# Altium schematic symbol library Resistors Ceramic SMD 1608.SchLib: 35 symbols
Pins are listed as number, name and electrical type; pins without a type are passive.

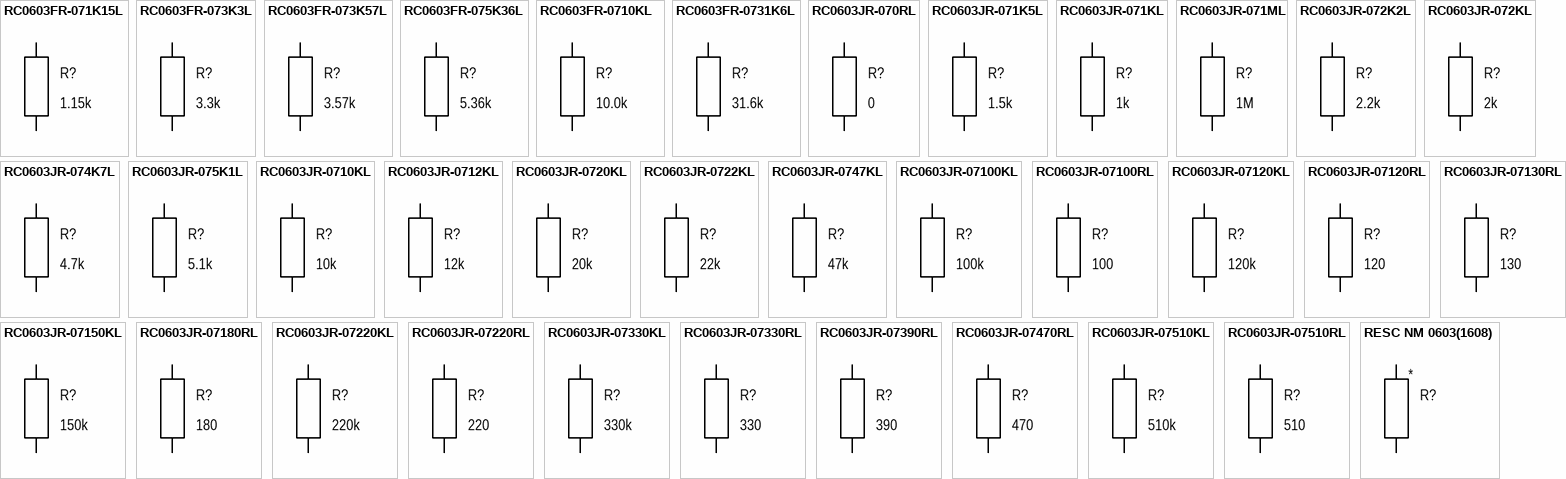
[diagram p0: symbols RC0603FR-071K15L to RESC NM 0603(1608)]

## RC0603FR-071K15L
designator R?, comment 1.15k
RESC 1.15k 0603(1608) 1%; Manufacturer: Yageo; Part name: RC0603FR-071K15L; Group: Discrete; Temperature coefficient: ±100ppm/°C; Power: 0.1W; Component: Resiscot Ceramic SMD; Tolerance: ±1%; Type: Thin film; Package: 0603 (1608); Resistance: 1.15k; Dimension: 1.60mm x 0.80mm; Height: 0.55mm; Operating temperature: -55°C +155°C; Mounting type: Surface mount
footprint RESC1608N (Chip Resistor, Body 1.6x0.8mm, IPC High Density)
footprint RESC1608M (Chip Resistor, Body 1.6x0.8mm, IPC High Density)
footprint RESC1608L (Chip Resistor, Body 1.6x0.8mm, IPC High Density)
pins: 1, 2

## RC0603FR-073K3L
designator R?, comment 3.3k
RESC 3.30k 0603(1608) 1%; Manufacturer: Yageo; Part name: RC0603FR-073K3L; Group: Discrete; Temperature coefficient: ±100ppm/°C; Power: 0.1W; Component: Resiscot Ceramic SMD; Tolerance: ±1%; Type: Thin film; Package: 0603 (1608); Resistance: 3.3k; Dimension: 1.60mm x 0.80mm; Height: 0.55mm; Operating temperature: -55°C +155°C; Mounting type: Surface mount
footprint RESC1608N (Chip Resistor, Body 1.6x0.8mm, IPC High Density)
footprint RESC1608M (Chip Resistor, Body 1.6x0.8mm, IPC High Density)
footprint RESC1608L (Chip Resistor, Body 1.6x0.8mm, IPC High Density)
pins: 1, 2

## RC0603FR-073K57L
designator R?, comment 3.57k
RESC 3.57k 0603(1608) 1%; Manufacturer: Yageo; Part name: RC0603FR-073K57L; Group: Discrete; Temperature coefficient: ±100ppm/°C; Power: 0.1W; Component: Resiscot Ceramic SMD; Tolerance: ±1%; Type: Thin film; Package: 0603 (1608); Resistance: 3.57k; Dimension: 1.60mm x 0.80mm; Height: 0.55mm; Operating temperature: -55°C +155°C; Mounting type: Surface mount
footprint RESC1608N (Chip Resistor, Body 1.6x0.8mm, IPC High Density)
footprint RESC1608M (Chip Resistor, Body 1.6x0.8mm, IPC High Density)
footprint RESC1608L (Chip Resistor, Body 1.6x0.8mm, IPC High Density)
pins: 1, 2

## RC0603FR-075K36L
designator R?, comment 5.36k
RESC 5.36k 0603(1608) 1%; Manufacturer: Yageo; Part name: RC0603FR-075K36L; Group: Discrete; Temperature coefficient: ±100ppm/°C; Power: 0.1W; Component: Resiscot Ceramic SMD; Tolerance: ±1%; Type: Thin film; Package: 0603 (1608); Resistance: 5.36k; Dimension: 1.60mm x 0.80mm; Height: 0.55mm; Operating temperature: -55°C +155°C; Mounting type: Surface mount
footprint RESC1608N (Chip Resistor, Body 1.6x0.8mm, IPC High Density)
footprint RESC1608M (Chip Resistor, Body 1.6x0.8mm, IPC High Density)
footprint RESC1608L (Chip Resistor, Body 1.6x0.8mm, IPC High Density)
pins: 1, 2

## RC0603FR-0710KL
designator R?, comment 10.0k
RESC 10.0k 0603(1608) 1%; Manufacturer: Yageo; Part name: RC0603FR-0710KL; Group: Discrete; Temperature coefficient: ±100ppm/°C; Power: 0.1W; Component: Resiscot Ceramic SMD; Tolerance: ±1%; Type: Thin film; Package: 0603 (1608); Resistance: 10.0k; Dimension: 1.60mm x 0.80mm; Height: 0.55mm; Operating temperature: -55°C +155°C; Mounting type: Surface mount
footprint RESC1608N (Chip Resistor, Body 1.6x0.8mm, IPC High Density)
footprint RESC1608M (Chip Resistor, Body 1.6x0.8mm, IPC High Density)
footprint RESC1608L (Chip Resistor, Body 1.6x0.8mm, IPC High Density)
pins: 1, 2

## RC0603FR-0731K6L
designator R?, comment 31.6k
RESC 31.6k 0603(1608) 1%; Manufacturer: Yageo; Part name: RC0603FR-0731K6L; Group: Discrete; Temperature coefficient: ±100ppm/°C; Power: 0.1W; Component: Resiscot Ceramic SMD; Tolerance: ±1%; Type: Thin film; Package: 0603 (1608); Resistance: 31.6k; Dimension: 1.60mm x 0.80mm; Height: 0.55mm; Operating temperature: -55°C +155°C; Mounting type: Surface mount
footprint RESC1608N (Chip Resistor, Body 1.6x0.8mm, IPC High Density)
footprint RESC1608M (Chip Resistor, Body 1.6x0.8mm, IPC High Density)
footprint RESC1608L (Chip Resistor, Body 1.6x0.8mm, IPC High Density)
pins: 1, 2

## RC0603JR-070RL
designator R?, comment 0
RESC 0 0603(1608); Manufacturer: Yageo; Part name: RC0603JR-070RL; Group: Discrete; Temperature coefficient: ±100ppm/°C; Tolerance: Jumper; Power: 0.1W; Component: Resiscot Ceramic; Type: Thin film; Package: 0603 (1608); Resistance: 0; Dimension: 1.60mm x 0.80mm; Height: 0.55mm; Operating temperature: -55°C +155°C; Mounting type: Surface mount
footprint RESC1608N (Chip Resistor, Body 1.6x0.8mm, IPC High Density)
footprint RESC1608M (Chip Resistor, Body 1.6x0.8mm, IPC High Density)
footprint RESC1608L (Chip Resistor, Body 1.6x0.8mm, IPC High Density)
pins: 1, 2

## RC0603JR-071K5L
designator R?, comment 1.5k
RESC 1.5k 0603(1608); Manufacturer: Yageo; Part name: RC0603JR-071K5L; Group: Discrete; Temperature coefficient: ±100ppm/°C; Tolerance: ±5%; Power: 0.1W; Component: Resiscot Ceramic; Type: Thin film; Package: 0603 (1608); Resistance: 1.5k; Dimension: 1.60mm x 0.80mm; Height: 0.55mm; Operating temperature: -55°C +155°C; Mounting type: Surface mount
footprint RESC1608N (Chip Resistor, Body 1.6x0.8mm, IPC High Density)
footprint RESC1608M (Chip Resistor, Body 1.6x0.8mm, IPC High Density)
footprint RESC1608L (Chip Resistor, Body 1.6x0.8mm, IPC High Density)
pins: 1, 2

## RC0603JR-071KL
designator R?, comment 1k
RESC 1k 0603(1608); Manufacturer: Yageo; Part name: RC0603JR-071KL; Group: Discrete; Temperature coefficient: ±100ppm/°C; Tolerance: ±5%; Power: 0.1W; Component: Resiscot Ceramic; Type: Thin film; Package: 0603 (1608); Resistance: 1k; Dimension: 1.60mm x 0.80mm; Height: 0.55mm; Operating temperature: -55°C +155°C; Mounting type: Surface mount
footprint RESC1608N (Chip Resistor, Body 1.6x0.8mm, IPC High Density)
footprint RESC1608M (Chip Resistor, Body 1.6x0.8mm, IPC High Density)
footprint RESC1608L (Chip Resistor, Body 1.6x0.8mm, IPC High Density)
pins: 1, 2

## RC0603JR-071ML
designator R?, comment 1M
RESC 1M 0603(1608); Manufacturer: Yageo; Part name: RC0603JR-071ML; Group: Discrete; Temperature coefficient: ±100ppm/°C; Tolerance: ±5%; Power: 0.1W; Component: Resiscot Ceramic; Type: Thin film; Package: 0603 (1608); Resistance: 1M; Dimension: 1.60mm x 0.80mm; Height: 0.55mm; Operating temperature: -55°C +155°C; Mounting type: Surface mount
footprint RESC1608N (Chip Resistor, Body 1.6x0.8mm, IPC High Density)
footprint RESC1608M (Chip Resistor, Body 1.6x0.8mm, IPC High Density)
footprint RESC1608L (Chip Resistor, Body 1.6x0.8mm, IPC High Density)
pins: 1, 2

## RC0603JR-072K2L
designator R?, comment 2.2k
RESC 2.2k 0603(1608); Manufacturer: Yageo; Part name: RC0603JR-072K2L; Group: Discrete; Temperature coefficient: ±100ppm/°C; Tolerance: ±5%; Power: 0.1W; Component: Resiscot Ceramic; Type: Thin film; Package: 0603 (1608); Resistance: 2.2k; Dimension: 1.60mm x 0.80mm; Height: 0.55mm; Operating temperature: -55°C +155°C; Mounting type: Surface mount
footprint RESC1608N (Chip Resistor, Body 1.6x0.8mm, IPC High Density)
footprint RESC1608M (Chip Resistor, Body 1.6x0.8mm, IPC High Density)
footprint RESC1608L (Chip Resistor, Body 1.6x0.8mm, IPC High Density)
pins: 1, 2

## RC0603JR-072KL
designator R?, comment 2k
RESC 2k 0603(1608); Manufacturer: Yageo; Part name: RC0603JR-072KL; Group: Discrete; Temperature coefficient: ±100ppm/°C; Tolerance: ±5%; Power: 0.1W; Component: Resiscot Ceramic; Type: Thin film; Package: 0603 (1608); Resistance: 2k; Dimension: 1.60mm x 0.80mm; Height: 0.55mm; Operating temperature: -55°C +155°C; Mounting type: Surface mount
footprint RESC1608N (Chip Resistor, Body 1.6x0.8mm, IPC High Density)
footprint RESC1608M (Chip Resistor, Body 1.6x0.8mm, IPC High Density)
footprint RESC1608L (Chip Resistor, Body 1.6x0.8mm, IPC High Density)
pins: 1, 2

## RC0603JR-074K7L
designator R?, comment 4.7k
RESC 4.7k 0603(1608); Manufacturer: Yageo; Part name: RC0603JR-074K7L; Group: Discrete; Temperature coefficient: ±100ppm/°C; Tolerance: ±5%; Power: 0.1W; Component: Resiscot Ceramic; Type: Thin film; Package: 0603 (1608); Resistance: 4.7k; Dimension: 1.60mm x 0.80mm; Height: 0.55mm; Operating temperature: -55°C +155°C; Mounting type: Surface mount
footprint RESC1608N (Chip Resistor, Body 1.6x0.8mm, IPC High Density)
footprint RESC1608M (Chip Resistor, Body 1.6x0.8mm, IPC High Density)
footprint RESC1608L (Chip Resistor, Body 1.6x0.8mm, IPC High Density)
pins: 1, 2

## RC0603JR-075K1L
designator R?, comment 5.1k
RESC 5.1k 0603(1608); Manufacturer: Yageo; Part name: RC0603JR-075K1L; Group: Discrete; Temperature coefficient: ±100ppm/°C; Tolerance: ±5%; Power: 0.1W; Component: Resiscot Ceramic; Type: Thin film; Package: 0603 (1608); Resistance: 5.1k; Dimension: 1.60mm x 0.80mm; Height: 0.55mm; Operating temperature: -55°C +155°C; Mounting type: Surface mount
footprint RESC1608N (Chip Resistor, Body 1.6x0.8mm, IPC High Density)
footprint RESC1608M (Chip Resistor, Body 1.6x0.8mm, IPC High Density)
footprint RESC1608L (Chip Resistor, Body 1.6x0.8mm, IPC High Density)
pins: 1, 2

## RC0603JR-0710KL
designator R?, comment 10k
RESC 10k 0603(1608); Manufacturer: Yageo; Part name: RC0603JR-0710KL; Group: Discrete; Temperature coefficient: ±100ppm/°C; Tolerance: ±5%; Power: 0.1W; Component: Resiscot Ceramic; Type: Thin film; Package: 0603 (1608); Resistance: 10k; Dimension: 1.60mm x 0.80mm; Height: 0.55mm; Operating temperature: -55°C +155°C; Mounting type: Surface mount
footprint RESC1608N (Chip Resistor, Body 1.6x0.8mm, IPC High Density)
footprint RESC1608M (Chip Resistor, Body 1.6x0.8mm, IPC High Density)
footprint RESC1608L (Chip Resistor, Body 1.6x0.8mm, IPC High Density)
pins: 1, 2

## RC0603JR-0712KL
designator R?, comment 12k
RESC 12k 0603(1608); Manufacturer: Yageo; Part name: RC0603JR-0712KL; Group: Discrete; Temperature coefficient: ±100ppm/°C; Tolerance: ±5%; Power: 0.1W; Component: Resiscot Ceramic; Type: Thin film; Package: 0603 (1608); Resistance: 12k; Dimension: 1.60mm x 0.80mm; Height: 0.55mm; Operating temperature: -55°C +155°C; Mounting type: Surface mount
footprint RESC1608N (Chip Resistor, Body 1.6x0.8mm, IPC High Density)
footprint RESC1608M (Chip Resistor, Body 1.6x0.8mm, IPC High Density)
footprint RESC1608L (Chip Resistor, Body 1.6x0.8mm, IPC High Density)
pins: 1, 2

## RC0603JR-0720KL
designator R?, comment 20k
RESC 20k 0603(1608); Manufacturer: Yageo; Part name: RC0603JR-0720KL; Group: Discrete; Temperature coefficient: ±100ppm/°C; Tolerance: ±5%; Power: 0.1W; Component: Resiscot Ceramic; Type: Thin film; Package: 0603 (1608); Resistance: 20k; Dimension: 1.60mm x 0.80mm; Height: 0.55mm; Operating temperature: -55°C +155°C; Mounting type: Surface mount
footprint RESC1608N (Chip Resistor, Body 1.6x0.8mm, IPC High Density)
footprint RESC1608M (Chip Resistor, Body 1.6x0.8mm, IPC High Density)
footprint RESC1608L (Chip Resistor, Body 1.6x0.8mm, IPC High Density)
pins: 1, 2

## RC0603JR-0722KL
designator R?, comment 22k
RESC 22k 0603(1608); Manufacturer: Yageo; Part name: RC0603JR-0722KL; Group: Discrete; Temperature coefficient: ±100ppm/°C; Tolerance: ±5%; Power: 0.1W; Component: Resiscot Ceramic; Type: Thin film; Package: 0603 (1608); Resistance: 22k; Dimension: 1.60mm x 0.80mm; Height: 0.55mm; Operating temperature: -55°C +155°C; Mounting type: Surface mount
footprint RESC1608N (Chip Resistor, Body 1.6x0.8mm, IPC High Density)
footprint RESC1608M (Chip Resistor, Body 1.6x0.8mm, IPC High Density)
footprint RESC1608L (Chip Resistor, Body 1.6x0.8mm, IPC High Density)
pins: 1, 2

## RC0603JR-0747KL
designator R?, comment 47k
RESC 47k 0603(1608); Manufacturer: Yageo; Part name: RC0603JR-0747KL; Group: Discrete; Temperature coefficient: ±100ppm/°C; Tolerance: ±5%; Power: 0.1W; Component: Resiscot Ceramic; Type: Thin film; Package: 0603 (1608); Resistance: 47k; Dimension: 1.60mm x 0.80mm; Height: 0.55mm; Operating temperature: -55°C +155°C; Mounting type: Surface mount
footprint RESC1608N (Chip Resistor, Body 1.6x0.8mm, IPC High Density)
footprint RESC1608M (Chip Resistor, Body 1.6x0.8mm, IPC High Density)
footprint RESC1608L (Chip Resistor, Body 1.6x0.8mm, IPC High Density)
pins: 1, 2

## RC0603JR-07100KL
designator R?, comment 100k
RESC 100k 0603(1608); Manufacturer: Yageo; Part name: RC0603JR-07100KL; Group: Discrete; Temperature coefficient: ±100ppm/°C; Tolerance: ±5%; Power: 0.1W; Component: Resiscot Ceramic; Type: Thin film; Package: 0603 (1608); Resistance: 100k; Dimension: 1.60mm x 0.80mm; Height: 0.55mm; Operating temperature: -55°C +155°C; Mounting type: Surface mount
footprint RESC1608N (Chip Resistor, Body 1.6x0.8mm, IPC High Density)
footprint RESC1608M (Chip Resistor, Body 1.6x0.8mm, IPC High Density)
footprint RESC1608L (Chip Resistor, Body 1.6x0.8mm, IPC High Density)
pins: 1, 2

## RC0603JR-07100RL
designator R?, comment 100
RESC 100 0603(1608); Manufacturer: Yageo; Part name: RC0603JR-07100RL; Group: Discrete; Temperature coefficient: ±100ppm/°C; Tolerance: ±5%; Power: 0.1W; Component: Resiscot Ceramic; Type: Thin film; Package: 0603 (1608); Resistance: 100; Dimension: 1.60mm x 0.80mm; Height: 0.55mm; Operating temperature: -55°C +155°C; Mounting type: Surface mount
footprint RESC1608N (Chip Resistor, Body 1.6x0.8mm, IPC High Density)
footprint RESC1608M (Chip Resistor, Body 1.6x0.8mm, IPC High Density)
footprint RESC1608L (Chip Resistor, Body 1.6x0.8mm, IPC High Density)
pins: 1, 2

## RC0603JR-07120KL
designator R?, comment 120k
RESC 120k 0603(1608); Manufacturer: Yageo; Part name: RC0603JR-07120KL; Group: Discrete; Temperature coefficient: ±100ppm/°C; Tolerance: ±5%; Power: 0.1W; Component: Resiscot Ceramic; Type: Thin film; Package: 0603 (1608); Resistance: 120k; Dimension: 1.60mm x 0.80mm; Height: 0.55mm; Operating temperature: -55°C +155°C; Mounting type: Surface mount
footprint RESC1608N (Chip Resistor, Body 1.6x0.8mm, IPC High Density)
footprint RESC1608M (Chip Resistor, Body 1.6x0.8mm, IPC High Density)
footprint RESC1608L (Chip Resistor, Body 1.6x0.8mm, IPC High Density)
pins: 1, 2

## RC0603JR-07120RL
designator R?, comment 120
RESC 120 0603(1608); Manufacturer: Yageo; Part name: RC0603JR-07120RL; Group: Discrete; Temperature coefficient: ±100ppm/°C; Tolerance: ±5%; Power: 0.1W; Component: Resiscot Ceramic; Type: Thin film; Package: 0603 (1608); Resistance: 120; Dimension: 1.60mm x 0.80mm; Height: 0.55mm; Operating temperature: -55°C +155°C; Mounting type: Surface mount
footprint RESC1608N (Chip Resistor, Body 1.6x0.8mm, IPC High Density)
footprint RESC1608M (Chip Resistor, Body 1.6x0.8mm, IPC High Density)
footprint RESC1608L (Chip Resistor, Body 1.6x0.8mm, IPC High Density)
pins: 1, 2

## RC0603JR-07130RL
designator R?, comment 130
RESC 130 0603(1608); Manufacturer: Yageo; Part name: RC0603JR-07130RL; Group: Discrete; Temperature coefficient: ±100ppm/°C; Tolerance: ±5%; Power: 0.1W; Component: Resiscot Ceramic; Type: Thin film; Package: 0603 (1608); Resistance: 130; Dimension: 1.60mm x 0.80mm; Height: 0.55mm; Operating temperature: -55°C +155°C; Mounting type: Surface mount
footprint RESC1608N (Chip Resistor, Body 1.6x0.8mm, IPC High Density)
footprint RESC1608M (Chip Resistor, Body 1.6x0.8mm, IPC High Density)
footprint RESC1608L (Chip Resistor, Body 1.6x0.8mm, IPC High Density)
pins: 1, 2

## RC0603JR-07150KL
designator R?, comment 150k
RESC 150k 0603(1608); Manufacturer: Yageo; Part name: RC0603JR-07150KL; Group: Discrete; Temperature coefficient: ±100ppm/°C; Tolerance: ±5%; Power: 0.1W; Component: Resiscot Ceramic; Type: Thin film; Package: 0603 (1608); Resistance: 150k; Dimension: 1.60mm x 0.80mm; Height: 0.55mm; Operating temperature: -55°C +155°C; Mounting type: Surface mount
footprint RESC1608N (Chip Resistor, Body 1.6x0.8mm, IPC High Density)
footprint RESC1608M (Chip Resistor, Body 1.6x0.8mm, IPC High Density)
footprint RESC1608L (Chip Resistor, Body 1.6x0.8mm, IPC High Density)
pins: 1, 2

## RC0603JR-07180RL
designator R?, comment 180
RESC 180 0603(1608); Manufacturer: Yageo; Part name: RC0603JR-07180RL; Group: Discrete; Temperature coefficient: ±100ppm/°C; Tolerance: ±5%; Power: 0.1W; Component: Resiscot Ceramic; Type: Thin film; Package: 0603 (1608); Resistance: 180; Dimension: 1.60mm x 0.80mm; Height: 0.55mm; Operating temperature: -55°C +155°C; Mounting type: Surface mount
footprint RESC1608N (Chip Resistor, Body 1.6x0.8mm, IPC High Density)
footprint RESC1608M (Chip Resistor, Body 1.6x0.8mm, IPC High Density)
footprint RESC1608L (Chip Resistor, Body 1.6x0.8mm, IPC High Density)
pins: 1, 2

## RC0603JR-07220KL
designator R?, comment 220k
RESC 220k 0603(1608); Manufacturer: Yageo; Part name: RC0603JR-07220KL; Group: Discrete; Temperature coefficient: ±100ppm/°C; Tolerance: ±5%; Power: 0.1W; Component: Resiscot Ceramic; Type: Thin film; Package: 0603 (1608); Resistance: 220k; Dimension: 1.60mm x 0.80mm; Height: 0.55mm; Operating temperature: -55°C +155°C; Mounting type: Surface mount
footprint RESC1608N (Chip Resistor, Body 1.6x0.8mm, IPC High Density)
footprint RESC1608M (Chip Resistor, Body 1.6x0.8mm, IPC High Density)
footprint RESC1608L (Chip Resistor, Body 1.6x0.8mm, IPC High Density)
pins: 1, 2

## RC0603JR-07220RL
designator R?, comment 220
RESC 220 0603(1608); Manufacturer: Yageo; Part name: RC0603JR-07220RL; Group: Discrete; Temperature coefficient: ±100ppm/°C; Tolerance: ±5%; Power: 0.1W; Component: Resiscot Ceramic; Type: Thin film; Package: 0603 (1608); Resistance: 220; Dimension: 1.60mm x 0.80mm; Height: 0.55mm; Operating temperature: -55°C +155°C; Mounting type: Surface mount
footprint RESC1608N (Chip Resistor, Body 1.6x0.8mm, IPC High Density)
footprint RESC1608M (Chip Resistor, Body 1.6x0.8mm, IPC High Density)
footprint RESC1608L (Chip Resistor, Body 1.6x0.8mm, IPC High Density)
pins: 1, 2

## RC0603JR-07330KL
designator R?, comment 330k
RESC 330k 0603(1608); Manufacturer: Yageo; Part name: RC0603JR-07330KL; Group: Discrete; Temperature coefficient: ±100ppm/°C; Tolerance: ±5%; Power: 0.1W; Component: Resiscot Ceramic; Type: Thin film; Package: 0603 (1608); Resistance: 330k; Dimension: 1.60mm x 0.80mm; Height: 0.55mm; Operating temperature: -55°C +155°C; Mounting type: Surface mount
footprint RESC1608N (Chip Resistor, Body 1.6x0.8mm, IPC High Density)
footprint RESC1608M (Chip Resistor, Body 1.6x0.8mm, IPC High Density)
footprint RESC1608L (Chip Resistor, Body 1.6x0.8mm, IPC High Density)
pins: 1, 2

## RC0603JR-07330RL
designator R?, comment 330
RESC 330 0603(1608); Manufacturer: Yageo; Part name: RC0603JR-07330RL; Group: Discrete; Temperature coefficient: ±100ppm/°C; Tolerance: ±5%; Power: 0.1W; Component: Resiscot Ceramic; Type: Thin film; Package: 0603 (1608); Resistance: 330; Dimension: 1.60mm x 0.80mm; Height: 0.55mm; Operating temperature: -55°C +155°C; Mounting type: Surface mount
footprint RESC1608N (Chip Resistor, Body 1.6x0.8mm, IPC High Density)
footprint RESC1608M (Chip Resistor, Body 1.6x0.8mm, IPC High Density)
footprint RESC1608L (Chip Resistor, Body 1.6x0.8mm, IPC High Density)
pins: 1, 2

## RC0603JR-07390RL
designator R?, comment 390
RESC 390 0603(1608); Manufacturer: Yageo; Part name: RC0603JR-07390RL; Group: Discrete; Temperature coefficient: ±100ppm/°C; Tolerance: ±5%; Power: 0.1W; Component: Resiscot Ceramic; Type: Thin film; Package: 0603 (1608); Resistance: 390; Dimension: 1.60mm x 0.80mm; Height: 0.55mm; Operating temperature: -55°C +155°C; Mounting type: Surface mount
footprint RESC1608N (Chip Resistor, Body 1.6x0.8mm, IPC High Density)
footprint RESC1608M (Chip Resistor, Body 1.6x0.8mm, IPC High Density)
footprint RESC1608L (Chip Resistor, Body 1.6x0.8mm, IPC High Density)
pins: 1, 2

## RC0603JR-07470RL
designator R?, comment 470
RESC 470 0603(1608); Manufacturer: Yageo; Part name: RC0603JR-07470RL; Group: Discrete; Temperature coefficient: ±100ppm/°C; Tolerance: ±5%; Power: 0.1W; Component: Resiscot Ceramic; Type: Thin film; Package: 0603 (1608); Resistance: 470; Dimension: 1.60mm x 0.80mm; Height: 0.55mm; Operating temperature: -55°C +155°C; Mounting type: Surface mount
footprint RESC1608N (Chip Resistor, Body 1.6x0.8mm, IPC High Density)
footprint RESC1608M (Chip Resistor, Body 1.6x0.8mm, IPC High Density)
footprint RESC1608L (Chip Resistor, Body 1.6x0.8mm, IPC High Density)
pins: 1, 2

## RC0603JR-07510KL
designator R?, comment 510k
RESC 510k 0603(1608); Manufacturer: Yageo; Part name: RC0603JR-07510KL; Group: Discrete; Temperature coefficient: ±100ppm/°C; Tolerance: ±5%; Power: 0.1W; Component: Resiscot Ceramic; Type: Thin film; Package: 0603 (1608); Resistance: 510k; Dimension: 1.60mm x 0.80mm; Height: 0.55mm; Operating temperature: -55°C +155°C; Mounting type: Surface mount
footprint RESC1608N (Chip Resistor, Body 1.6x0.8mm, IPC High Density)
footprint RESC1608M (Chip Resistor, Body 1.6x0.8mm, IPC High Density)
footprint RESC1608L (Chip Resistor, Body 1.6x0.8mm, IPC High Density)
pins: 1, 2

## RC0603JR-07510RL
designator R?, comment 510
RESC 510 0603(1608); Manufacturer: Yageo; Part name: RC0603JR-07510RL; Group: Discrete; Temperature coefficient: ±100ppm/°C; Tolerance: ±5%; Power: 0.1W; Component: Resiscot Ceramic; Type: Thin film; Package: 0603 (1608); Resistance: 510; Dimension: 1.60mm x 0.80mm; Height: 0.55mm; Operating temperature: -55°C +155°C; Mounting type: Surface mount
footprint RESC1608N (Chip Resistor, Body 1.6x0.8mm, IPC High Density)
footprint RESC1608M (Chip Resistor, Body 1.6x0.8mm, IPC High Density)
footprint RESC1608L (Chip Resistor, Body 1.6x0.8mm, IPC High Density)
pins: 1, 2

## RESC NM 0603(1608)
designator R?  (no BOM)
RESC NM 0603(1608); Group: Discrete; Component: Resiscot Ceramic; Package: 0603 (1608); Dimension: 1.60mm x 0.80mm; Height: 0.55mm; Mounting type: Surface mount (Not mounted)
footprint RESC1608N_NM (Chip Resistor, Body 1.6x0.8mm, IPC High Density)
footprint RESC1608M_NM (Chip Resistor, Body 1.6x0.8mm, IPC High Density)
footprint RESC1608L_NM (Chip Resistor, Body 1.6x0.8mm, IPC High Density)
pins: 1, 2